# Altium integrated library Fuses.IntLib: 17 symbols
Pins are listed as number, name and electrical type; pins without a type are passive.

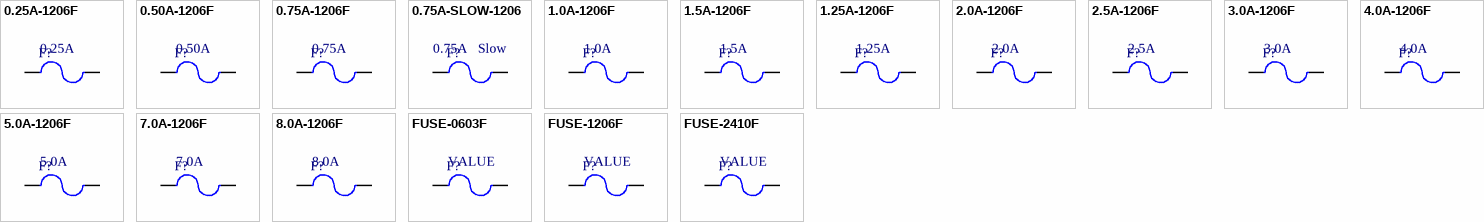
[diagram p0: symbols 0.25A-1206F to FUSE-2410F]

## 0.25A-1206F
designator F?, comment CURRENT: 0.25A  (hidden comment: Fuse, SMT 1206, 0.25A, Fast Blow)
Surface mount fuse, 1206 Size, 63V, Fast Blow, 0.25 A; Manufacturer: Eaton Bussmann; Part Number: TR/3216FF250-R; RESISTANCE: 3.5; Voltage (AC): 32Vac; PackageDescription: Surface Mount Fuse, 1206 Size; Speed: Fast; Supplier 1: Digi-Key; Supplier 2: Newark; Supplier 3: Mouser; Supplier Part Number 1: 283-2537-1-ND; Supplier Part Number 2: 19K7751; Supplier Part Number 3: 504-TR/3216FF250-R; Package Reference: 1206F; Voltage (DC): 63V
footprint 1206-F (SMT Fuse, 1206 Size, Body 3.2x1.6mm, IPC High Density)
simulation model FUSE (Spice Subcircuit)
3D model 1206-F (PCB3D Model)
pins: 1, 2

## 0.50A-1206F
designator F?, comment CURRENT: 0.50A  (hidden comment: Fuse, SMT 1206, 0.50A, Fast)
Surface mount fuse, 1206 Size, 63V, Fast Blow, 0.50A; Manufacturer: Eaton Bussmann; Part Number: TR/3216FF500-R; RESISTANCE: 0.98; Voltage (AC): 32Vac; PackageDescription: Surface Mount Fuse, 1206 Size; Speed: Fast Blow; Supplier 1: Digi-Key; Supplier 2: Arrow; Supplier 3: Mouser; Supplier Part Number 1: 283-2539-1-ND; Supplier Part Number 2: TR-3216FF500-R; Supplier Part Number 3: 504-TR/3216FF500-R; Package Reference: 1206F; Voltage (DC): 63V
footprint 1206-F (SMT Fuse, 1206 Size, Body 3.2x1.6mm, IPC High Density)
simulation model FUSE (Spice Subcircuit)
3D model 1206-F (PCB3D Model)
pins: 1, 2

## 0.75A-1206F
designator F?, comment CURRENT: 0.75A  (hidden comment: Fuse, SMT 1206, 0.75A, Fast Blow)
Surface mount fuse, 1206 Size, 63V, Fast Blow, 0.75A; Manufacturer: Eaton Bussmann; Part Number: TR/3216FF750-R; RESISTANCE: 0.54; Voltage (AC): 32Vac; PackageDescription: Surface Mount Fuse, 1206 Size; Speed: Fast; Supplier 1: Digi-Key; Supplier 2: Newark; Supplier 3: Mouser; Supplier Part Number 1: 283-2540-1-ND; Supplier Part Number 2: 19K7760; Supplier Part Number 3: 504-TR/3216FF750-R; Package Reference: 1206F; Voltage (DC): 63V
footprint 1206-F (SMT Fuse, 1206 Size, Body 3.2x1.6mm, IPC High Density)
simulation model FUSE (Spice Subcircuit)
3D model 1206-F (PCB3D Model)
pins: 1, 2

## 0.75A-SLOW-1206
designator F?, comment Speed: Slow  CURRENT: 0.75A  (hidden comment: C1T 750)
Surface mount fuse, 1206 Size, 63V, Slow Blow, 0.75A; Manufacturer: Bel Fuse Inc; RESISTANCE: 0.54; Voltage (AC): 63Vac; PackageDescription: Surface Mount Fuse, 1206 Size; Package Reference: 1206F; Part Number: C1T 750; Supplier 1: Digi-Key; Supplier Part Number 1: 507-1890-1-ND; Supplier 2: Digi-Key; Supplier Part Number 2: 507-1890-6-ND; Voltage (DC): 63V
footprint 1206-F (SMT Fuse, 1206 Size, Body 3.2x1.6mm, IPC High Density)
simulation model FUSE (Spice Subcircuit)
3D model 1206-F (PCB3D Model)
pins: 1, 2

## 1.0A-1206F
designator F?, comment CURRENT: 1.0A  (hidden comment: Fuse, SMT 1206, 1.0A, Fast Blow)
Surface mount fuse, 1206 Size, 63V, Fast Blow, 1.0A; Manufacturer: Eaton Bussmann; Part Number: TR/3216FF1-R; RESISTANCE: 0.219; Voltage (AC): 32Vac; PackageDescription: Surface Mount Fuse, 1206 Size; Speed: Fast; Supplier 1: Digi-Key; Supplier 2: Newark; Supplier 3: Mouser; Supplier Part Number 1: 283-2541-1-ND; Supplier Part Number 2: 19K7749; Supplier Part Number 3: 504-TR/3216FF1-R; Package Reference: 1206F; Voltage (DC): 63V
footprint 1206-F (SMT Fuse, 1206 Size, Body 3.2x1.6mm, IPC High Density)
simulation model FUSE (Spice Subcircuit)
3D model 1206-F (PCB3D Model)
pins: 1, 2

## 1.5A-1206F
designator F?, comment CURRENT: 1.5A  (hidden comment: Fuse, SMT 1206, 1.5A, Fast)
Surface mount fuse, 1206 Size, 63V, Fast Blow, 1.5A; Manufacturer: Eaton Bussmann; Part Number: TR/3216FF1.5-R; RESISTANCE: 0.119; Voltage (AC): 32Vac; PackageDescription: Surface Mount Fuse, 1206 Size; Speed: Fast; Supplier 1: Newark; Supplier 2: Mouser; Supplier 3: Digi-Key; Supplier Part Number 1: 19K7748; Supplier Part Number 2: 504-TR/3216FF1.5-R; Supplier Part Number 3: 283-2543-1-ND; Package Reference: 1206F; Voltage (DC): 63V
footprint 1206-F (SMT Fuse, 1206 Size, Body 3.2x1.6mm, IPC High Density)
simulation model FUSE (Spice Subcircuit)
3D model 1206-F (PCB3D Model)
pins: 1, 2

## 1.25A-1206F
designator F?, comment CURRENT: 1.25A  (hidden comment: Fuse, SMT 1206, 1.25A, Fast Blow)
Surface mount fuse, 1206 Size,63V, Fast Blow, 1.25A; Manufacturer: Eaton Bussmann; Part Number: TR/3216FF1.25-R; RESISTANCE: 0.17; Voltage (AC): 32Vac; PackageDescription: Surface Mount Fuse, 1206 Size; Speed: Fast; Supplier 1: Digi-Key; Supplier 2: Arrow; Supplier 3: Mouser; Supplier Part Number 1: 283-2542-1-ND; Supplier Part Number 2: TR3216FF1.25R; Supplier Part Number 3: 504-TR/3216FF1.25-R; Package Reference: 1206F; Voltage (DC): 63V
footprint 1206-F (SMT Fuse, 1206 Size, Body 3.2x1.6mm, IPC High Density)
simulation model FUSE (Spice Subcircuit)
3D model 1206-F (PCB3D Model)
pins: 1, 2

## 2.0A-1206F
designator F?, comment CURRENT: 2.0A  (hidden comment: Fuse, SMT 1206, 2.0A, Fast)
Surface mount fuse, 1206 Size, 63V, Fast Blow, 2.0A; Manufacturer: Eaton Bussmann; Part Number: TR/3216FF2-R; RESISTANCE: 0.0660; Voltage (AC): 32Vac; PackageDescription: Surface Mount Fuse, 1206 Size; Speed: Fast; Supplier 1: Newark; Supplier 2: Mouser; Supplier 3: Digi-Key; Supplier Part Number 1: 95J9753; Supplier Part Number 2: 504-TR/3216FF2-R; Supplier Part Number 3: 283-2544-1-ND; Package Reference: 1206F; Voltage (DC): 63V
footprint 1206-F (SMT Fuse, 1206 Size, Body 3.2x1.6mm, IPC High Density)
simulation model FUSE (Spice Subcircuit)
3D model 1206-F (PCB3D Model)
pins: 1, 2

## 2.5A-1206F
designator F?, comment CURRENT: 2.5A  (hidden comment: Fuse, SMT 1206, 2.5A, Speed)
Surface mount fuse, 1206 Size, 63V, Fast Blow, 2.5A; Manufacturer: Eaton Bussmann; Part Number: TR/3216FF2.5-R; RESISTANCE: 0.046; Voltage (AC): 32Vac; PackageDescription: Surface Mount Fuse, 1206 Size; Speed: Fast; Supplier 1: Digi-Key; Supplier 2: Newark; Supplier 3: Mouser; Supplier Part Number 1: 283-2545-1-ND; Supplier Part Number 2: 19K7750; Supplier Part Number 3: 504-TR/3216FF2.5-R; Package Reference: 1206F; Voltage (DC): 63V
footprint 1206-F (SMT Fuse, 1206 Size, Body 3.2x1.6mm, IPC High Density)
simulation model FUSE (Spice Subcircuit)
3D model 1206-F (PCB3D Model)
pins: 1, 2

## 3.0A-1206F
designator F?, comment CURRENT: 3.0A  (hidden comment: Fuse, SMT 1206, 3.0A, Fast)
Surface mount fuse, 1206 Size, 63V, Fast Blow, 3.0A; Manufacturer: Eaton Bussmann; Part Number: TR/3216FF3-R; RESISTANCE: 0.036; Voltage (AC): 32Vac; PackageDescription: Surface Mount Fuse, 1206 Size; Speed: Fast; Supplier 1: Digi-Key; Supplier 2: Newark; Supplier 3: Mouser; Supplier Part Number 1: 283-2546-1-ND; Supplier Part Number 2: 19K7752; Supplier Part Number 3: 504-TR/3216FF3-R; Package Reference: 1206F; Voltage (DC): 63V
footprint 1206-F (SMT Fuse, 1206 Size, Body 3.2x1.6mm, IPC High Density)
simulation model FUSE (Spice Subcircuit)
3D model 1206-F (PCB3D Model)
pins: 1, 2

## 4.0A-1206F
designator F?, comment CURRENT: 4.0A  (hidden comment: Fuse, SMT 1206, 4.0A, Fast)
Surface mount fuse, 1206 Size, 63V, Fast Blow, 4.0A; Manufacturer: Eaton Bussmann; Part Number: TR/3216FF4-R; RESISTANCE: 0.0180; Voltage (AC): 32Vac; PackageDescription: Surface Mount Fuse, 1206 Size; Speed: Fast; Package Reference: 1206F; Voltage (DC): 63V
footprint 1206-F (SMT Fuse, 1206 Size, Body 3.2x1.6mm, IPC High Density)
simulation model FUSE (Spice Subcircuit)
3D model 1206-F (PCB3D Model)
pins: 1, 2

## 5.0A-1206F
designator F?, comment CURRENT: 5.0A  (hidden comment: Fuse, SMT 1206, 5.0A, Fast)
Surface mount fuse, 1206 Size, 63V, Fast Blow, 5.0A; Manufacturer: Eaton Bussmann; Part Number: TR/3216FF5-R; RESISTANCE: 0.0140; Voltage (AC): 32Vac; PackageDescription: Surface Mount Fuse, 1206 Size; Speed: Fast; Supplier 1: Digi-Key; Supplier 2: Newark; Supplier 3: Mouser; Supplier Part Number 1: 283-2549-1-ND; Supplier Part Number 2: 19K7756; Supplier Part Number 3: 504-TR/3216FF5-R; Package Reference: 1206F; Voltage (DC): 63V
footprint 1206-F (SMT Fuse, 1206 Size, Body 3.2x1.6mm, IPC High Density)
simulation model FUSE (Spice Subcircuit)
3D model 1206-F (PCB3D Model)
pins: 1, 2

## 7.0A-1206F
designator F?, comment CURRENT: 7.0A  (hidden comment: Fuse, SMT 1206, 7.0A, Fast)
Surface mount fuse, 1206 Size, 63V, Fast Blow, 7.0A; Manufacturer: Eaton Bussmann; Part Number: TR/3216FF7-R; RESISTANCE: 0.0070; Voltage (AC): 32Vac; PackageDescription: Surface Mount Fuse, 1206 Size; Speed: Fast; Supplier 1: Mouser; Supplier 2: Digi-Key; Supplier Part Number 1: 504-TR/3216FF7-R; Supplier Part Number 2: 283-2551-1-ND; Package Reference: 1206F; Voltage (DC): 63V
footprint 1206-F (SMT Fuse, 1206 Size, Body 3.2x1.6mm, IPC High Density)
simulation model FUSE (Spice Subcircuit)
3D model 1206-F (PCB3D Model)
pins: 1, 2

## 8.0A-1206F
designator F?, comment CURRENT: 8.0A  (hidden comment: Fuse, SMT 1206, 8.0A, Fast)
Surface mount fuse, 1206 Size, 125V, Fast Blow, 8.0A; Manufacturer: Littelfuse Inc.; Part Number: 0453008.MR; RESISTANCE: 0.0077; Voltage (AC): 125VAC; PackageDescription: Surface Mount Fuse, 1206 Size; Speed: Fast; Supplier 1: Mouser; Supplier 2: Digi-Key; Supplier Part Number 1: 576-0453008.MR; Supplier Part Number 2: F3340CT-ND; Package Reference: 1206F; Voltage (DC): 125V
footprint 1206-F (SMT Fuse, 1206 Size, Body 3.2x1.6mm, IPC High Density)
simulation model FUSE (Spice Subcircuit)
3D model 1206-F (PCB3D Model)
pins: 1, 2

## FUSE-0603F
designator F?, comment CURRENT: VALUE  (hidden comment: Fuse, SMT 0603, XXA, Speed)
Surface mount fuse, 0603 Size, XXV, XXX Blow, XX A; RESISTANCE: USED FOR SIM; Speed: Speed rating of fuse; PackageDescription: Surface Mount Fuse, 0603 Size; Package Reference: 0603F
footprint 0603-F (SMT Fuse, 0603 Size, Body 1.6x0.8mm, IPC High Density)
simulation model FUSE (Spice Subcircuit)
3D model 0603-F (PCB3D Model)
pins: 1, 2

## FUSE-1206F
designator F?, comment CURRENT: VALUE  (hidden comment: Fuse, SMT 1206, XXA, Speed)
Surface mount fuse, 1206 Size, XXV, XXX Blow, XX A; RESISTANCE: USED FOR SIM; Speed: Speed rating of fuse; PackageDescription: Surface Mount Fuse, 1206 Size; Package Reference: 1206F
footprint 1206-F (SMT Fuse, 1206 Size, Body 3.2x1.6mm, IPC High Density)
simulation model FUSE (Spice Subcircuit)
3D model 1206-F (PCB3D Model)
pins: 1, 2

## FUSE-2410F
designator F?, comment CURRENT: VALUE  (hidden comment: Fuse, SMT 2410, XXA, Speed)
Surface mount fuse, 2410 Size, XXV, XXX Blow, XX A; RESISTANCE: USED FOR SIM; Speed: Speed rating of fuse; PackageDescription: Surface Mount Fuse, 2410 Size; Package Reference: 2410F
footprint 2410-F (SMD Fuse, 2410 (6125 metric) Size 2-Leads, Body 6.10x2.72mm, IPC Low Density)
simulation model FUSE (Spice Subcircuit)
pins: 1, 2